# Altium schematic symbol library Schlib1.SchLib: 5 symbols
Pins are listed as number, name and electrical type; pins without a type are passive.

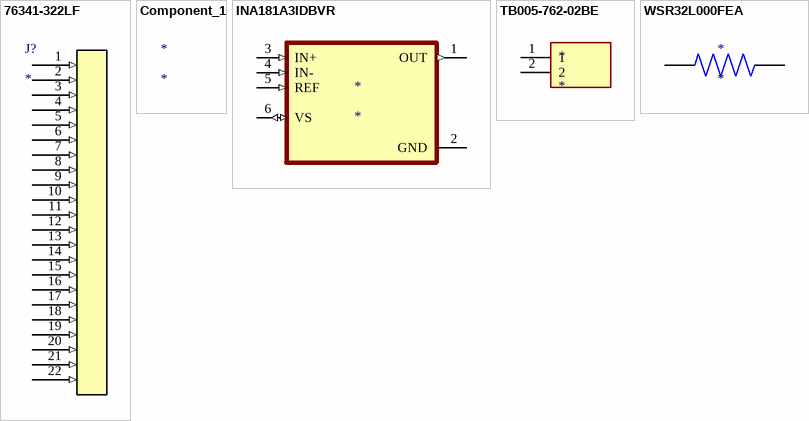
[diagram p0: symbols 76341-322LF to WSR32L000FEA]

## 76341-322LF
designator J?
FCI 2.54mm 22 Way 1 Row Straight IDC Connector Through Hole Board to Board; Manufacturer: Amphenol ICC / FCI; Manufacturer Part Number: 76341-322LF; Manufacturer Series: 76341; Connector Type: BOARD CONNECTOR; Option: General Purpose; Body/Shell Style: RECEPTACLE; Contact Pattern: RECTANGULAR; Contact Resistance: 20mR; Contact Style: SQ PIN-SKT; Dielectric Withstanding Voltage (AC): 1.4kV; Filter Feature: No; Insulation Resistance: 1GR; Number Of Connectors: 1; Polarization Key: POLARIZED HOUSING; Rated Current (Signal): 2A; Number of Contacts: 22; Body Breadth: 0.1inch; Body Depth: 0.276inch; Body Length: 2.12inch; Mounting Option 1: LOCKING; Plating Thickness: 30uin; Reference Standard: UL; Reliability: COMMERCIAL; Supplier: Digikey; Supplier Part Number: 609-76341-322LF-ND; RoHS: Yes; Category: Connectors; Stock: 193; Pricing: 1=3.08, 10=2.616, 100=2.2236, 500=1.98482, 3600=1.72692 (USD); Mounting Technology: Board; Contact Material: Bronze; Contact Finish - Mating: GOLD (30); Contact Finish - Termination: Matte Tin (Sn) - with Nickel (Ni) barrier; Insulation Color: Blue; Insulation Material: Thermoplastic; Min Operating Temperature: -65°C; Max Operating Temperature: 125°C; JESD-609 Code: e3; Contact Gender: Female; Mixed Contacts: No; Mounting Style: STRAIGHT; Number Of PCB Rows: 1; Number of Rows Loaded: 1; PCB Contact Pattern: RECTANGULAR; Termination: Solder; Mating Contact Pitch: 0.1inch; Terminal Length: 0.114inch; Terminal Pitch: 2.54mm; Flammability Rating: UL94 V-0; DIN Conformance: No; IEC Conformance: No; MIL Conformance: No; Reach SVHC Compliant: Yes; RoHS Compliant: Yes; ComponentLink1URL: https://datasheet.ciiva.com/8050/320502-8050326.pdf?src-supplier=Element14; ComponentLink1Description: https://datasheet.ciiva.com/8050/320502-8050326.pdf?src-supplier=Element14; ComponentLink2URL: https://datasheet.ciiva.com/412/76341-412489.pdf?src-supplier=Digikey; ComponentLink2Description: https://datasheet.ciiva.com/412/76341-412489.pdf?src-supplier=Digikey; ComponentLink3URL: https://datasheet.ciiva.com/17014/70247770-17014075.pdf?src-supplier=Allied+Electronics; ComponentLink3Description: https://datasheet.ciiva.com/17014/70247770-17014075.pdf?src-supplier=Allied+Electronics; ComponentLink4URL: https://datasheet.ciiva.com/10126/76341-10126892.pdf?src-supplier=Avnet; ComponentLink4Description: https://datasheet.ciiva.com/10126/76341-10126892.pdf?src-supplier=Avnet
footprint AMPHENOL_76341-322LF
pins: 1 (in), 2 (in), 3 (in), 4 (in), 5 (in), 6 (in), 7 (in), 8 (in), 9 (in), 10 (in), 11 (in), 12 (in), 13 (in), 14 (in), 15 (in), 16 (in), 17 (in), 18 (in), 19 (in), 20 (in), 21 (in), 22 (in)

## Component_1
designator *

## INA181A3IDBVR
designator *
Operational Amplifier, 1 Func, 500uV Offset-Max, PDSO6; Manufacturer: Texas Instruments; Manufacturer Part Number: INA181A3IDBVR; Package Body Material: Plastic; Average Bias Current-Max (IIB): 75uA; Common-mode Reject Ratio-Nom: 100dB; Channels: 1; Slew Rate: 2V/µs; Supply Voltage Limit-Max: 5.5V; Nominal Supply Voltage: 5V; Unity Gain BW-Nom: 350kHz; Supplier: Digikey; Supplier Part Number: 296-47658-1-ND; RoHS: Yes; Category: Amplifiers - Op Amps, Buffer, Instrumentation; Stock: 8886; Pricing: 1=0.43, 10=0.297, 25=0.2652, 100=0.2296, 250=0.21268, 500=0.20246, 1000=0.19404 (USD); Case/Package: SOP; Pins: 6; Package Shape: Rectangular; Terminal Finish: Tin; Min Operating Temperature: -40°C; Max Operating Temperature: 125°C; JESD-609 Code: e3; Amplifier Type: OPERATIONAL AMPLIFIER; Input Offset Voltage-Max: 500uV; JESD-30 Code: R-PDSO-G6; Moisture Sensitivity Level: 1; Package Style: SMALL OUTLINEMeter; Peak Reflow Temperature (Cel): 260°C; Surface Mount: Yes; Terminal Form: Gull Wing; Terminal Position: DUAL; Temperature Grade: AUTOMOTIVE; Reach SVHC Compliant: Yes; RoHS Compliant: Yes; ComponentLink1URL: https://www.ti.com:443/lit/ds/symlink/ina181.pdf?src-supplier=IHS+Markit; ComponentLink1Description: https://www.ti.com:443/lit/ds/symlink/ina181.pdf?src-supplier=IHS+Markit; ComponentLink2URL: http://www.ti.com/lit/ds/symlink/ina181.pdf?src-supplier=Digikey; ComponentLink2Description: http://www.ti.com/lit/ds/symlink/ina181.pdf?src-supplier=Digikey
footprint SOT95P280X145-6N
pins: 1 OUT (out), 2 GND (power), 3 IN+ (in), 4 IN- (in), 5 REF (in), 6 VS (io)

## TB005-762-02BE
designator *
Barrier Strip Terminal Block; Manufacturer: Same Sky; Manufacturer Part Number: TB005-762-02BE; Supplier: Digikey; Supplier Part Number: 102-6189-ND; RoHS: Yes; Category: Terminal Blocks; Stock: 4809; Pricing: 1=0.78, 10=0.574, 25=0.5, 50=0.4504, 100=0.4073, 250=0.36028, 600=0.3253, 1200=0.30358, 5400=0.27068 (USD); ComponentLink1URL: https://www.cuidevices.com/product/resource/digikeypdf/tb005-762.pdf?src-supplier=Digikey; ComponentLink1Description: https://www.cuidevices.com/product/resource/digikeypdf/tb005-762.pdf?src-supplier=Digikey; ComponentLink2URL: https://datasheet.octopart.com/TB005-762-02BE-Same-Sky-datasheet-182050252.pdf?src-supplier=Future+Electronics; ComponentLink2Description: https://datasheet.octopart.com/TB005-762-02BE-Same-Sky-datasheet-182050252.pdf?src-supplier=Future+Electronics; ComponentLink3URL: https://datasheet.octopart.com/TB005-762-02BE-CUI-Devices-datasheet-142371921.pdf?src-supplier=Future+Electronics; ComponentLink3Description: https://datasheet.octopart.com/TB005-762-02BE-CUI-Devices-datasheet-142371921.pdf?src-supplier=Future+Electronics; ComponentLink4URL: https://datasheet.octopart.com/TB005-762-02BE-Same-Sky-datasheet-182881445.pdf?src-supplier=Electro+Sonic; ComponentLink4Description: https://datasheet.octopart.com/TB005-762-02BE-Same-Sky-datasheet-182881445.pdf?src-supplier=Electro+Sonic; ComponentLink5URL: https://datasheet.octopart.com/TB005-762-02BE-Same-Sky-datasheet-189105715.pdf?src-supplier=Master+Electronics; ComponentLink5Description: https://datasheet.octopart.com/TB005-762-02BE-Same-Sky-datasheet-189105715.pdf?src-supplier=Master+Electronics
footprint CUI_TB005-762-02BE
pins: 1, 2

## WSR32L000FEA
designator *
Fixed Resistor, Metal Strip, 3W, 0.002ohm, 0.077V, 1% +/-Tol, 600ppm/Cel, Surface Mount, 4527; Manufacturer: Vishay Dale; Manufacturer Part Number: WSR32L000FEA; Rated Temperature: 70°C; Value: 2mR; Temperature Coefficient (ppm/Cel): -600,600; Package Height: 2.41mm; Package Length: 11.56mm; Package Width: 6.98mm; Reference Standard: AEC-Q200; Supplier: Digikey; Supplier Part Number: WSRB-.002CT-ND; RoHS: Yes; Category: Chip SMD Resistors; Stock: 1901; Pricing: 1=1.54, 10=1.022, 25=0.906, 50=0.8386, 100=0.7852, 250=0.73096, 500=0.69258 (USD); Mounting Technology: Surface Mount; Pins: 2; Package Shape: Rectangular; Case/Package: 4527; Terminal Finish: Tin; Min Operating Temperature: -65°C; Max Operating Temperature: 275°C; Tolerance: 1%; JESD-609 Code: e2; Resistor Type: FIXED RESISTOR; Construction: Chip; Packaging: Tape and Reel; Power: 3W; Technology: METAL STRIP; Termination: Wraparound; Reach SVHC Compliant: Yes; RoHS Compliant: Yes; ComponentLink1URL: https://datasheet.ciiva.com:443/pdfs/VipMasterIC/IC/VISH/VISH-S-A0007103483/VISH-S-A0007103483-1.pdf?src-supplier=IHS+Markit; ComponentLink1Description: https://datasheet.ciiva.com:443/pdfs/VipMasterIC/IC/VISH/VISH-S-A0007103483/VISH-S-A0007103483-1.pdf?src-supplier=IHS+Markit; ComponentLink2URL: https://datasheet.ciiva.com/11812/0900766b80d81e5e-11812948.pdf?src-supplier=Rs; ComponentLink2Description: https://datasheet.ciiva.com/11812/0900766b80d81e5e-11812948.pdf?src-supplier=Rs; ComponentLink3URL: https://datasheet.ciiva.com/2484/wsr-2484757.pdf?src-supplier=Digikey; ComponentLink3Description: https://datasheet.ciiva.com/2484/wsr-2484757.pdf?src-supplier=Digikey; ComponentLink4URL: https://datasheet.ciiva.com/2484/wsr-2484758.pdf?src-supplier=Digikey; ComponentLink4Description: https://datasheet.ciiva.com/2484/wsr-2484758.pdf?src-supplier=Digikey; ComponentLink5URL: https://datasheet.ciiva.com/2484/wsr-2484759.pdf?src-supplier=Digikey; ComponentLink5Description: https://datasheet.ciiva.com/2484/wsr-2484759.pdf?src-supplier=Digikey; ComponentLink6URL: https://datasheet.ciiva.com/16375/wsr-16375639.pdf?src-supplier=Future+Electronics; ComponentLink6Description: https://datasheet.ciiva.com/16375/wsr-16375639.pdf?src-supplier=Future+Electronics
footprint RESM11569X253N
pins: 1, 2